# Altium integrated library Diodes - TVS.IntLib: 5379 symbols (part 12 of 122)
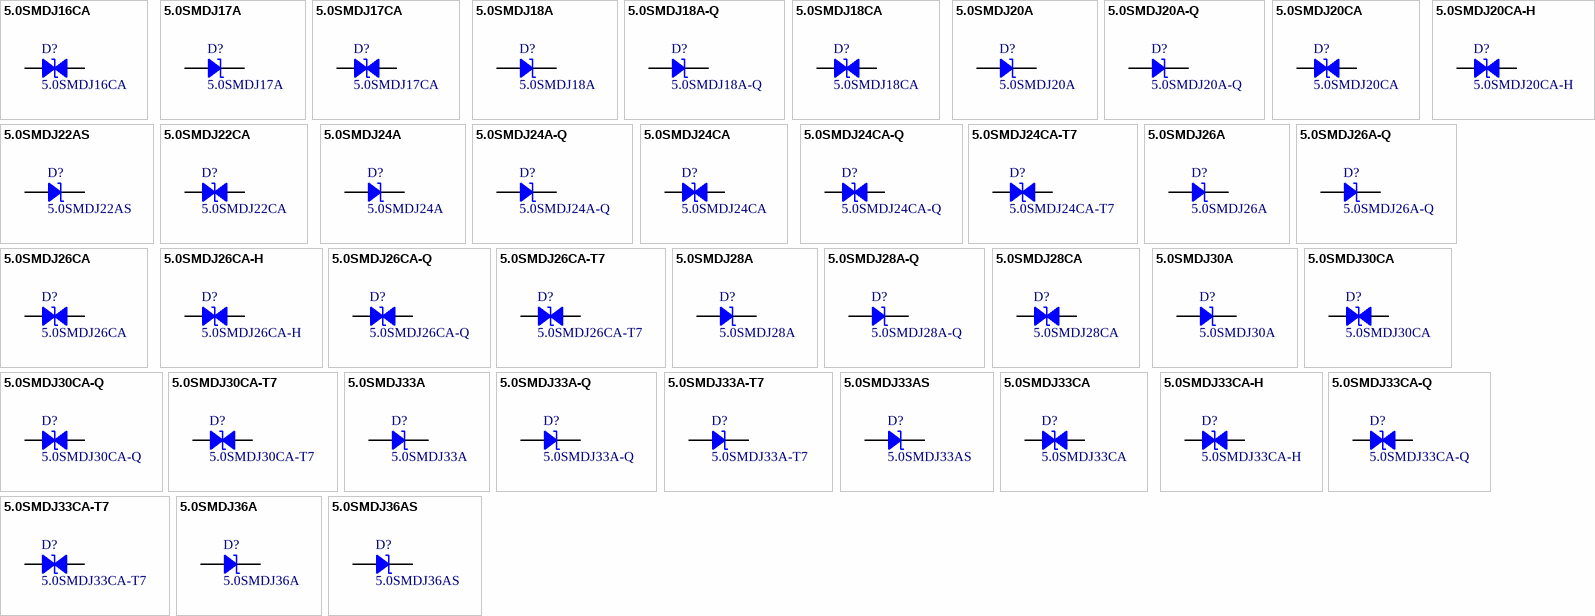
[diagram p145: symbols 5.0SMDJ16CA to 5.0SMDJ36AS]

## 5.0SMDJ36AS
designator D?
TVS DIODE 5KW 36V 5%UNI DO-214AB; Manufacturer: Littelfuse Inc.; Current - Peak Pulse (10/1000µs): 86.1A; Power Line Protection: No; Power - Peak Pulse: 5000W (5kW); Type: Zener; Unidirectional Channels: 1; Voltage - Breakdown (Min): 40V; Voltage - Clamping (Max) @ Ipp: 58.1V; Part Number: 5.0SMDJ36AS; Applications: Telecom; ComponentLink1Description: Datasheet; ComponentLink1URL: https://m.littelfuse.com/~/media/electronics/datasheets/tvs_diodes/littelfuse_tvs_diode_5_0smdjxxs_datasheet.pdf.pdf; ComponentLink2Description: DigiKey Link; ComponentLink2URL: http://digikey.com/product-detail/en/littelfuse-inc/5.0SMDJ36AS/5.0SMDJ36ASCT-ND/10264820; LastUpdated: 9/2/2020 1:20:06 AM; Lifecycle Status: Active; Minimum Order: 1; Mounting Type: Surface Mount; Operating Temperature: -65°C ~ 150°C (TJ); Package / Case: DO-214AB, SMC; Packaging: TapeAndReel; PartId: 7005; Part Status: Active; Price: 0.72; Series: 5.0SMDJ-S; Supplier 1: DigiKey; Supplier Part Number 1: 5.0SMDJ36ASCT-ND; Supplier Device Package: DO-214AB (SMCJ); Voltage - Reverse Standoff (Typ): 36V
footprint DO214AB SMC
pins: 1, 2

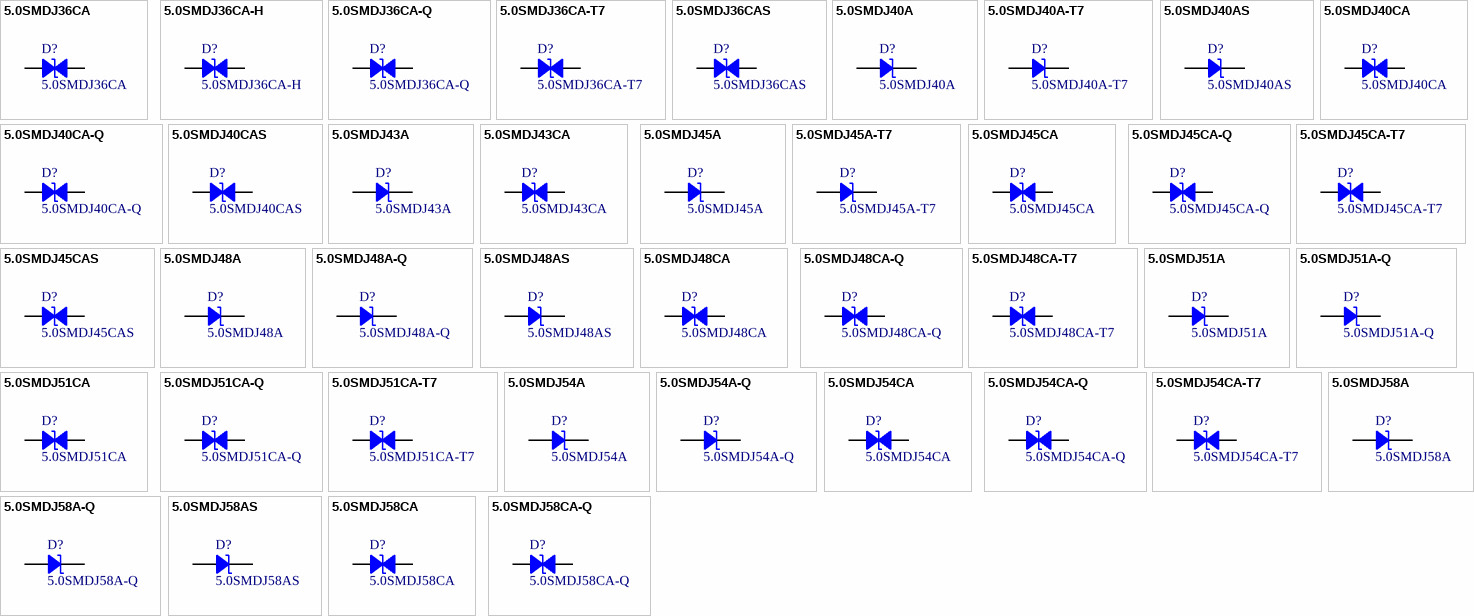
[diagram p12: symbols 5.0SMDJ36CA to 5.0SMDJ58CA-Q]

## 5.0SMDJ36CA
designator D?
TVS DIODE 36V 58.1V DO214AB; Manufacturer: Littelfuse Inc.; Bidirectional Channels: 1; Current - Peak Pulse (10/1000µs): 86.1A; Power Line Protection: No; Power - Peak Pulse: 5000W (5kW); Type: Zener; Voltage - Breakdown (Min): 40V; Part Number: 5.0SMDJ36CA; Applications: General Purpose; ComponentLink1Description: Datasheet; ComponentLink1URL: https://www.littelfuse.com/products/tvs-diodes/surface-mount/~/media/electronics/datasheets/tvs_diodes/littelfuse_tvs_diode_5_0smdj_datasheet.pdf.pdf; ComponentLink2Description: DigiKey Link; ComponentLink2URL: http://digikey.com/product-detail/en/littelfuse-inc/5.0SMDJ36CA/F4122CT-ND/2745260; LastUpdated: 9/2/2020 1:28:03 AM; Lifecycle Status: Active; Minimum Order: 1; Mounting Type: Surface Mount; Operating Temperature: -65°C ~ 150°C (TJ); Package / Case: DO-214AB, SMC; Packaging: TapeAndReel; PartId: 8143; Part Status: Active; Price: 1.02; Series: 5.0SMDJ; Supplier 1: DigiKey; Supplier Part Number 1: F4122CT-ND; Supplier Device Package: DO-214AB (SMCJ); Voltage - Clamping (Max) @ Ipp: 58.1V; Voltage - Reverse Standoff (Typ): 36V
footprint DO214AB SMC
pins: 1, 2

## 5.0SMDJ36CA-H
designator D?
TVS DIODE 36V 58.1V DO214AB; Manufacturer: Bourns Inc.; Bidirectional Channels: 1; Current - Peak Pulse (10/1000µs): 86.1A; Power Line Protection: No; Power - Peak Pulse: 5000W (5kW); Type: Zener; Voltage - Breakdown (Min): 40V; Part Number: 5.0SMDJ36CA-H; Applications: General Purpose; ComponentLink1Description: Datasheet; ComponentLink1URL: https://www.bourns.com/docs/product-datasheets/5-0smdj.pdf; ComponentLink2Description: DigiKey Link; ComponentLink2URL: http://digikey.com/product-detail/en/bourns-inc/5.0SMDJ36CA-H/5.0SMDJ36CA-HCT-ND/7670060; LastUpdated: 9/2/2020 1:28:07 AM; Lifecycle Status: Active; Minimum Order: 1; Mounting Type: Surface Mount; Operating Temperature: -55°C ~ 150°C (TJ); Package / Case: DO-214AB, SMC; Packaging: TapeAndReel; PartId: 8580; Part Status: Active; Price: 0.91; Series: 5.0SMDJ; Supplier 1: DigiKey; Supplier Part Number 1: 5.0SMDJ36CA-HCT-ND; Supplier Device Package: DO-214AB (SMC); Voltage - Clamping (Max) @ Ipp: 58.1V; Voltage - Reverse Standoff (Typ): 36V
footprint DO214AB SMC
pins: 1, 2

## 5.0SMDJ36CA-Q
designator D?
DIO TVS VWM 36V 5KW BIDIR SMC AE; Manufacturer: Bourns Inc.; Bidirectional Channels: 1; Current - Peak Pulse (10/1000µs): 86.1A; Power Line Protection: No; Power - Peak Pulse: 5000W (5kW); Type: Zener; Voltage - Breakdown (Min): 40V; Voltage - Clamping (Max) @ Ipp: 58.1V; Part Number: 5.0SMDJ36CA-Q; Applications: Automotive; ComponentLink1Description: Datasheet; ComponentLink1URL: https://www.bourns.com/docs/product-datasheets/5-0smdj-q.pdf?sfvrsn=a6c72f6_2; ComponentLink2Description: DigiKey Link; ComponentLink2URL: http://digikey.com/product-detail/en/bourns-inc/5.0SMDJ36CA-Q/5.0SMDJ36CA-QCT-ND/10222672; LastUpdated: 9/2/2020 1:28:06 AM; Lifecycle Status: Active; Minimum Order: 1; Mounting Type: Surface Mount; Operating Temperature: -55°C ~ 150°C (TJ); Package / Case: DO-214AB, SMC; Packaging: TapeAndReel; PartId: 8415; Part Status: Active; Price: 0.91; Series: Automotive, AEC-Q101, 5.0SMDJ; Supplier 1: DigiKey; Supplier Part Number 1: 5.0SMDJ36CA-QCT-ND; Supplier Device Package: SMC (DO-214AB); Voltage - Reverse Standoff (Typ): 36V
footprint DO214AB SMC
pins: 1, 2

## 5.0SMDJ36CA-T7
designator D?
TVS DIODE 36VWM 58.1VC SMD; Manufacturer: Littelfuse Inc.; Bidirectional Channels: 1; Current - Peak Pulse (10/1000µs): 86.1A; Power Line Protection: No; Power - Peak Pulse: 5000W (5kW); Type: Zener; Voltage - Breakdown (Min): 40V; Voltage - Clamping (Max) @ Ipp: 58.1V; Voltage - Reverse Standoff (Typ): 36V; Part Number: 5.0SMDJ36CA-T7; Applications: General Purpose; ComponentLink1Description: Datasheet; ComponentLink1URL: https://www.littelfuse.com/products/tvs-diodes/surface-mount/~/media/electronics/datasheets/tvs_diodes/littelfuse_tvs_diode_5_0smdj_datasheet.pdf.pdf; ComponentLink2Description: DigiKey Link; ComponentLink2URL: http://digikey.com/product-detail/en/littelfuse-inc/5.0SMDJ36CA-T7/5.0SMDJ36CA-T7CT-ND/8548364; LastUpdated: 9/2/2020 1:28:02 AM; Lifecycle Status: Active; Minimum Order: 1; Mounting Type: Surface Mount; Operating Temperature: -65°C ~ 150°C (TJ); Package / Case: DO-214AB, SMC; Packaging: TapeAndReel; PartId: 8018; Part Status: Active; Price: 1.22; Series: 5.0SMDJ; Supplier 1: DigiKey; Supplier Part Number 1: 5.0SMDJ36CA-T7CT-ND; Supplier Device Package: DO-214AB (SMCJ)
footprint DO214AB SMC
pins: 1, 2

## 5.0SMDJ36CAS
designator D?
TVS DIODE 4.5KW 36V 5%BI DO-214A; Manufacturer: Littelfuse Inc.; Bidirectional Channels: 1; Current - Peak Pulse (10/1000µs): 77.5A; Power Line Protection: No; Power - Peak Pulse: 5000W (5kW); Type: Zener; Voltage - Breakdown (Min): 40V; Voltage - Clamping (Max) @ Ipp: 58.1V; Part Number: 5.0SMDJ36CAS; Applications: Telecom; ComponentLink1Description: Datasheet; ComponentLink1URL: https://m.littelfuse.com/~/media/electronics/datasheets/tvs_diodes/littelfuse_tvs_diode_5_0smdjxxs_datasheet.pdf.pdf; ComponentLink2Description: DigiKey Link; ComponentLink2URL: http://digikey.com/product-detail/en/littelfuse-inc/5.0SMDJ36CAS/5.0SMDJ36CASCT-ND/10264821; LastUpdated: 9/2/2020 1:28:07 AM; Lifecycle Status: Active; Minimum Order: 1; Mounting Type: Surface Mount; Operating Temperature: -65°C ~ 150°C (TJ); Package / Case: DO-214AB, SMC; Packaging: TapeAndReel; PartId: 8584; Part Status: Active; Price: 0.92; Series: 5.0SMDJ-S; Supplier 1: DigiKey; Supplier Part Number 1: 5.0SMDJ36CASCT-ND; Supplier Device Package: DO-214AB (SMCJ); Voltage - Reverse Standoff (Typ): 36V
footprint DO214AB SMC
pins: 1, 2

## 5.0SMDJ40A
designator D?
TVS DIODE 40V 64.5V DO214AB; Manufacturer: Bourns Inc.; Current - Peak Pulse (10/1000µs): 77.6A; Power Line Protection: No; Power - Peak Pulse: 5000W (5kW); Type: Zener; Unidirectional Channels: 1; Voltage - Breakdown (Min): 44.4V; Part Number: 5.0SMDJ40A; Applications: General Purpose; ComponentLink1Description: Datasheet; ComponentLink1URL: https://www.bourns.com/docs/product-datasheets/5-0smdj.pdf; ComponentLink2Description: DigiKey Link; ComponentLink2URL: http://digikey.com/product-detail/en/bourns-inc/5.0SMDJ40A/5.0SMDJ40ABBCT-ND/7796658; LastUpdated: 9/2/2020 1:19:58 AM; Lifecycle Status: Active; Minimum Order: 1; Mounting Type: Surface Mount; Operating Temperature: -55°C ~ 150°C (TJ); Package / Case: DO-214AB, SMC; Packaging: TapeAndReel; PartId: 6239; Part Status: Active; Price: 0.72; Series: 5.0SMDJ; Supplier 1: DigiKey; Supplier Part Number 1: 5.0SMDJ40ABBCT-ND; Supplier Device Package: DO-214AB (SMC); Voltage - Clamping (Max) @ Ipp: 64.5V; Voltage - Reverse Standoff (Typ): 40V
footprint DO214AB SMC
pins: 1, 2

## 5.0SMDJ40A-T7
designator D?
TVS DIODE 40V 64.5V DO214AB; Manufacturer: Littelfuse Inc.; Current - Peak Pulse (10/1000µs): 77.6A; Power Line Protection: No; Power - Peak Pulse: 5000W (5kW); Type: Zener; Unidirectional Channels: 1; Voltage - Breakdown (Min): 44.4V; Part Number: 5.0SMDJ40A-T7; Applications: General Purpose; ComponentLink1Description: Datasheet; ComponentLink1URL: https://www.littelfuse.com/products/tvs-diodes/surface-mount/~/media/electronics/datasheets/tvs_diodes/littelfuse_tvs_diode_5_0smdj_datasheet.pdf.pdf; ComponentLink2Description: DigiKey Link; ComponentLink2URL: http://digikey.com/product-detail/en/littelfuse-inc/5.0SMDJ40A-T7/5.0SMDJ40A-T7CT-ND/9841917; LastUpdated: 9/2/2020 1:19:58 AM; Lifecycle Status: Active; Minimum Order: 1; Mounting Type: Surface Mount; Operating Temperature: -65°C ~ 150°C (TJ); Package / Case: DO-214AB, SMC; Packaging: TapeAndReel; PartId: 6230; Part Status: Active; Price: 0.96; Series: 5.0SMDJ; Supplier 1: DigiKey; Supplier Part Number 1: 5.0SMDJ40A-T7CT-ND; Supplier Device Package: DO-214AB (SMCJ); Voltage - Clamping (Max) @ Ipp: 64.5V; Voltage - Reverse Standoff (Typ): 40V
footprint DO214AB SMC
pins: 1, 2

## 5.0SMDJ40AS
designator D?
TVS DIODE 5KW 40V 5%UNI DO-214AB; Manufacturer: Littelfuse Inc.; Current - Peak Pulse (10/1000µs): 77.6A; Power Line Protection: No; Power - Peak Pulse: 5000W (5kW); Type: Zener; Unidirectional Channels: 1; Voltage - Breakdown (Min): 44.4V; Voltage - Clamping (Max) @ Ipp: 64.5V; Part Number: 5.0SMDJ40AS; Applications: Telecom; ComponentLink1Description: Datasheet; ComponentLink1URL: https://m.littelfuse.com/~/media/electronics/datasheets/tvs_diodes/littelfuse_tvs_diode_5_0smdjxxs_datasheet.pdf.pdf; ComponentLink2Description: DigiKey Link; ComponentLink2URL: http://digikey.com/product-detail/en/littelfuse-inc/5.0SMDJ40AS/5.0SMDJ40ASCT-ND/10264822; LastUpdated: 9/2/2020 1:20:05 AM; Lifecycle Status: Active; Minimum Order: 1; Mounting Type: Surface Mount; Operating Temperature: -65°C ~ 150°C (TJ); Package / Case: DO-214AB, SMC; Packaging: TapeAndReel; PartId: 6955; Part Status: Active; Price: 0.72; Series: 5.0SMDJ-S; Supplier 1: DigiKey; Supplier Part Number 1: 5.0SMDJ40ASCT-ND; Supplier Device Package: DO-214AB (SMCJ); Voltage - Reverse Standoff (Typ): 40V
footprint DO214AB SMC
pins: 1, 2

## 5.0SMDJ40CA
designator D?
TVS DIODE 40V 64.5V DO214AB; Manufacturer: Littelfuse Inc.; Bidirectional Channels: 1; Current - Peak Pulse (10/1000µs): 77.6A; Power Line Protection: No; Power - Peak Pulse: 5000W (5kW); Type: Zener; Voltage - Breakdown (Min): 44.4V; Part Number: 5.0SMDJ40CA; Applications: General Purpose; ComponentLink1Description: Datasheet; ComponentLink1URL: https://www.littelfuse.com/products/tvs-diodes/surface-mount/~/media/electronics/datasheets/tvs_diodes/littelfuse_tvs_diode_5_0smdj_datasheet.pdf.pdf; ComponentLink2Description: DigiKey Link; ComponentLink2URL: http://digikey.com/product-detail/en/littelfuse-inc/5.0SMDJ40CA/F6809CT-ND/5452969; LastUpdated: 9/2/2020 1:28:03 AM; Lifecycle Status: Active; Minimum Order: 1; Mounting Type: Surface Mount; Operating Temperature: -65°C ~ 150°C (TJ); Package / Case: DO-214AB, SMC; Packaging: TapeAndReel; PartId: 8141; Part Status: Active; Price: 1.02; Series: 5.0SMDJ; Supplier 1: DigiKey; Supplier Part Number 1: F6809CT-ND; Supplier Device Package: DO-214AB (SMCJ); Voltage - Clamping (Max) @ Ipp: 64.5V; Voltage - Reverse Standoff (Typ): 40V
footprint DO214AB SMC
pins: 1, 2

## 5.0SMDJ40CA-Q
designator D?
DIO TVS VWM 40V 5KW BIDIR SMC AE; Manufacturer: Bourns Inc.; Bidirectional Channels: 1; Current - Peak Pulse (10/1000µs): 77.6A; Power Line Protection: No; Power - Peak Pulse: 5000W (5kW); Type: Zener; Voltage - Breakdown (Min): 44.4V; Voltage - Clamping (Max) @ Ipp: 64.5V; Part Number: 5.0SMDJ40CA-Q; Applications: Automotive; ComponentLink1Description: Datasheet; ComponentLink1URL: https://www.bourns.com/docs/product-datasheets/5-0smdj-q.pdf?sfvrsn=a6c72f6_2; ComponentLink2Description: DigiKey Link; ComponentLink2URL: http://digikey.com/product-detail/en/bourns-inc/5.0SMDJ40CA-Q/5.0SMDJ40CA-QCT-ND/10222673; LastUpdated: 9/2/2020 1:28:06 AM; Lifecycle Status: Active; Minimum Order: 1; Mounting Type: Surface Mount; Operating Temperature: -55°C ~ 150°C (TJ); Package / Case: DO-214AB, SMC; Packaging: TapeAndReel; PartId: 8417; Part Status: Active; Price: 0.91; Series: Automotive, AEC-Q101, 5.0SMDJ; Supplier 1: DigiKey; Supplier Part Number 1: 5.0SMDJ40CA-QCT-ND; Supplier Device Package: SMC (DO-214AB); Voltage - Reverse Standoff (Typ): 40V
footprint DO214AB SMC
pins: 1, 2

## 5.0SMDJ40CAS
designator D?
TVS DIODE 4.5KW 40V 5%BI DO-214A; Manufacturer: Littelfuse Inc.; Bidirectional Channels: 1; Current - Peak Pulse (10/1000µs): 69.8A; Power Line Protection: No; Power - Peak Pulse: 5000W (5kW); Type: Zener; Voltage - Breakdown (Min): 44.4V; Voltage - Clamping (Max) @ Ipp: 64.5V; Part Number: 5.0SMDJ40CAS; Applications: Telecom; ComponentLink1Description: Datasheet; ComponentLink1URL: https://m.littelfuse.com/~/media/electronics/datasheets/tvs_diodes/littelfuse_tvs_diode_5_0smdjxxs_datasheet.pdf.pdf; ComponentLink2Description: DigiKey Link; ComponentLink2URL: http://digikey.com/product-detail/en/littelfuse-inc/5.0SMDJ40CAS/5.0SMDJ40CASCT-ND/10264823; LastUpdated: 9/2/2020 1:28:07 AM; Lifecycle Status: Active; Minimum Order: 1; Mounting Type: Surface Mount; Operating Temperature: -65°C ~ 150°C (TJ); Package / Case: DO-214AB, SMC; Packaging: TapeAndReel; PartId: 8583; Part Status: Active; Price: 0.92; Series: 5.0SMDJ-S; Supplier 1: DigiKey; Supplier Part Number 1: 5.0SMDJ40CASCT-ND; Supplier Device Package: DO-214AB (SMCJ); Voltage - Reverse Standoff (Typ): 40V
footprint DO214AB SMC
pins: 1, 2

## 5.0SMDJ43A
designator D?
TVS DIODE 43V 69.4V DO214AB; Manufacturer: Littelfuse Inc.; Current - Peak Pulse (10/1000µs): 72.1A; Power Line Protection: No; Power - Peak Pulse: 5000W (5kW); Type: Zener; Unidirectional Channels: 1; Voltage - Breakdown (Min): 47.8V; Part Number: 5.0SMDJ43A; Applications: General Purpose; ComponentLink1Description: Datasheet; ComponentLink1URL: https://www.littelfuse.com/products/tvs-diodes/surface-mount/~/media/electronics/datasheets/tvs_diodes/littelfuse_tvs_diode_5_0smdj_datasheet.pdf.pdf; ComponentLink2Description: DigiKey Link; ComponentLink2URL: http://digikey.com/product-detail/en/littelfuse-inc/5.0SMDJ43A/F10853CT-ND/8109589; LastUpdated: 9/2/2020 1:20:04 AM; Lifecycle Status: Active; Minimum Order: 1; Mounting Type: Surface Mount; Operating Temperature: -65°C ~ 150°C (TJ); Package / Case: DO-214AB, SMC; Packaging: TapeAndReel; PartId: 6805; Part Status: Active; Price: 0.94; Series: 5.0SMDJ; Supplier 1: DigiKey; Supplier Part Number 1: F10853CT-ND; Supplier Device Package: DO-214AB (SMCJ); Voltage - Clamping (Max) @ Ipp: 69.4V; Voltage - Reverse Standoff (Typ): 43V
footprint DO214AB SMC
pins: 1, 2

## 5.0SMDJ43CA
designator D?
TVS DIODE 43V 69.4V DO214AB; Manufacturer: Littelfuse Inc.; Bidirectional Channels: 1; Current - Peak Pulse (10/1000µs): 72.1A; Power Line Protection: No; Power - Peak Pulse: 5000W (5kW); Type: Zener; Voltage - Breakdown (Min): 47.8V; Part Number: 5.0SMDJ43CA; Applications: General Purpose; ComponentLink1Description: Datasheet; ComponentLink1URL: https://www.littelfuse.com/products/tvs-diodes/surface-mount/~/media/electronics/datasheets/tvs_diodes/littelfuse_tvs_diode_5_0smdj_datasheet.pdf.pdf; ComponentLink2Description: DigiKey Link; ComponentLink2URL: http://digikey.com/product-detail/en/littelfuse-inc/5.0SMDJ43CA/F10854CT-ND/8109590; LastUpdated: 9/2/2020 1:28:07 AM; Lifecycle Status: Active; Minimum Order: 1; Mounting Type: Surface Mount; Operating Temperature: -65°C ~ 150°C (TJ); Package / Case: DO-214AB, SMC; Packaging: TapeAndReel; PartId: 8578; Part Status: Active; Price: 1.02; Series: 5.0SMDJ; Supplier 1: DigiKey; Supplier Part Number 1: F10854CT-ND; Supplier Device Package: DO-214AB (SMCJ); Voltage - Clamping (Max) @ Ipp: 69.4V; Voltage - Reverse Standoff (Typ): 43V
footprint DO214AB SMC
pins: 1, 2

## 5.0SMDJ45A
designator D?
TVS DIODE 45V 72.7V DO214AB; Manufacturer: Bourns Inc.; Current - Peak Pulse (10/1000µs): 68.8A; Power Line Protection: No; Power - Peak Pulse: 5000W (5kW); Type: Zener; Unidirectional Channels: 1; Voltage - Breakdown (Min): 50V; Part Number: 5.0SMDJ45A; Applications: General Purpose; ComponentLink1Description: Datasheet; ComponentLink1URL: https://www.bourns.com/docs/product-datasheets/5-0smdj.pdf; ComponentLink2Description: DigiKey Link; ComponentLink2URL: http://digikey.com/product-detail/en/bourns-inc/5.0SMDJ45A/5.0SMDJ45ABBCT-ND/7796660; LastUpdated: 9/2/2020 1:20:00 AM; Lifecycle Status: Active; Minimum Order: 1; Mounting Type: Surface Mount; Operating Temperature: -55°C ~ 150°C (TJ); Package / Case: DO-214AB, SMC; Packaging: TapeAndReel; PartId: 6449; Part Status: Active; Price: 0.72; Series: 5.0SMDJ; Supplier 1: DigiKey; Supplier Part Number 1: 5.0SMDJ45ABBCT-ND; Supplier Device Package: DO-214AB (SMC); Voltage - Clamping (Max) @ Ipp: 72.7V; Voltage - Reverse Standoff (Typ): 45V
footprint DO214AB SMC
pins: 1, 2

## 5.0SMDJ45A-T7
designator D?
TVS DIODE 45V 72.7V DO214AB; Manufacturer: Littelfuse Inc.; Current - Peak Pulse (10/1000µs): 68.8A; Power Line Protection: No; Power - Peak Pulse: 5000W (5kW); Type: Zener; Unidirectional Channels: 1; Voltage - Breakdown (Min): 50V; Part Number: 5.0SMDJ45A-T7; Applications: Telecom; ComponentLink1Description: Datasheet; ComponentLink1URL: https://www.littelfuse.com/products/tvs-diodes/surface-mount/~/media/electronics/datasheets/tvs_diodes/littelfuse_tvs_diode_5_0smdj_datasheet.pdf.pdf; ComponentLink2Description: DigiKey Link; ComponentLink2URL: http://digikey.com/product-detail/en/littelfuse-inc/5-0SMDJ45A-T7/18-5-0SMDJ45A-T7CT-ND/12756500; LastUpdated: 8/30/2020 9:01:03 PM; Lifecycle Status: Active; Minimum Order: 1; Mounting Type: Surface Mount; Package / Case: DO-214AB, SMC; Packaging: TapeAndReel; PartId: 11473; Price: 1.12; Series: 5.0SMDJ; Supplier 1: DigiKey; Supplier Part Number 1: 18-5.0SMDJ45A-T7CT-ND; Supplier Device Package: DO-214AB (SMCJ); Voltage - Clamping (Max) @ Ipp: 72.7V; Voltage - Reverse Standoff (Typ): 45V
footprint DO214AB SMC
pins: 1, 2

## 5.0SMDJ45CA
designator D?
TVS DIODE 45V 72.7V DO214AB; Manufacturer: Littelfuse Inc.; Bidirectional Channels: 1; Current - Peak Pulse (10/1000µs): 68.8A; Power Line Protection: No; Power - Peak Pulse: 5000W (5kW); Type: Zener; Voltage - Breakdown (Min): 50V; Part Number: 5.0SMDJ45CA; Applications: General Purpose; ComponentLink1Description: Datasheet; ComponentLink1URL: https://www.littelfuse.com/products/tvs-diodes/surface-mount/~/media/electronics/datasheets/tvs_diodes/littelfuse_tvs_diode_5_0smdj_datasheet.pdf.pdf; ComponentLink2Description: DigiKey Link; ComponentLink2URL: http://digikey.com/product-detail/en/littelfuse-inc/5.0SMDJ45CA/F4124CT-ND/2745262; LastUpdated: 9/2/2020 1:28:03 AM; Lifecycle Status: Active; Minimum Order: 1; Mounting Type: Surface Mount; Operating Temperature: -65°C ~ 150°C (TJ); Package / Case: DO-214AB, SMC; Packaging: TapeAndReel; PartId: 8139; Part Status: Active; Price: 1.25; Series: 5.0SMDJ; Supplier 1: DigiKey; Supplier Part Number 1: F4124CT-ND; Supplier Device Package: DO-214AB (SMCJ); Voltage - Clamping (Max) @ Ipp: 72.7V; Voltage - Reverse Standoff (Typ): 45V
footprint DO214AB SMC
pins: 1, 2

## 5.0SMDJ45CA-Q
designator D?
TVS DIODE; Manufacturer: Bourns Inc.; Bidirectional Channels: 1; Current - Peak Pulse (10/1000µs): 68.8A; Power Line Protection: No; Power - Peak Pulse: 5000W (5kW); Type: Zener; Voltage - Breakdown (Min): 50V; Voltage - Clamping (Max) @ Ipp: 72.7V; Voltage - Reverse Standoff (Typ): 45V; Part Number: 5.0SMDJ45CA-Q; Applications: Automotive, Telecom; ComponentLink1Description: Datasheet; ComponentLink1URL: https://www.bourns.com/docs/product-datasheets/5-0smdj-q.pdf; ComponentLink2Description: DigiKey Link; ComponentLink2URL: http://digikey.com/product-detail/en/bourns-inc/5.0SMDJ45CA-Q/118-5.0SMDJ45CA-QCT-ND/10447733; LastUpdated: 9/2/2020 1:28:08 AM; Lifecycle Status: Active; Minimum Order: 1; Mounting Type: Surface Mount; Operating Temperature: -55°C ~ 150°C (TJ); Package / Case: DO-214AB, SMC; Packaging: TapeAndReel; PartId: 8607; Part Status: Active; Price: 0.91; Series: Automotive, AEC-Q101, 5.0SMDJ; Supplier 1: DigiKey; Supplier Part Number 1: 118-5.0SMDJ45CA-QCT-ND; Supplier Device Package: SMC (DO-214AB)
footprint DO214AB SMC
pins: 1, 2

## 5.0SMDJ45CA-T7
designator D?
TVS DIODE 45V 72.7V DO214AB; Manufacturer: Littelfuse Inc.; Bidirectional Channels: 1; Current - Peak Pulse (10/1000µs): 68.8A; Power Line Protection: No; Power - Peak Pulse: 5000W (5kW); Type: Zener; Voltage - Breakdown (Min): 50V; Part Number: 5.0SMDJ45CA-T7; Applications: General Purpose; ComponentLink1Description: Datasheet; ComponentLink1URL: https://www.littelfuse.com/products/tvs-diodes/surface-mount/~/media/electronics/datasheets/tvs_diodes/littelfuse_tvs_diode_5_0smdj_datasheet.pdf.pdf; ComponentLink2Description: DigiKey Link; ComponentLink2URL: http://digikey.com/product-detail/en/littelfuse-inc/5.0SMDJ45CA-T7/F11457CT-ND/9326986; LastUpdated: 9/2/2020 1:28:06 AM; Lifecycle Status: Active; Minimum Order: 1; Mounting Type: Surface Mount; Operating Temperature: -65°C ~ 150°C (TJ); Package / Case: DO-214AB, SMC; Packaging: TapeAndReel; PartId: 8396; Part Status: Active; Price: 1.49; Series: 5.0SMDJ; Supplier 1: DigiKey; Supplier Part Number 1: F11457CT-ND; Supplier Device Package: DO-214AB (SMCJ); Voltage - Clamping (Max) @ Ipp: 72.7V; Voltage - Reverse Standoff (Typ): 45V
footprint DO214AB SMC
pins: 1, 2

## 5.0SMDJ45CAS
designator D?
TVS DIODE 4.5KW 45V 5%BI DO-214A; Manufacturer: Littelfuse Inc.; Bidirectional Channels: 1; Current - Peak Pulse (10/1000µs): 61.9A; Power Line Protection: No; Power - Peak Pulse: 5000W (5kW); Type: Zener; Voltage - Breakdown (Min): 50V; Voltage - Clamping (Max) @ Ipp: 72.7V; Part Number: 5.0SMDJ45CAS; Applications: Telecom; ComponentLink1Description: Datasheet; ComponentLink1URL: https://m.littelfuse.com/~/media/electronics/datasheets/tvs_diodes/littelfuse_tvs_diode_5_0smdjxxs_datasheet.pdf.pdf; ComponentLink2Description: DigiKey Link; ComponentLink2URL: http://digikey.com/product-detail/en/littelfuse-inc/5.0SMDJ45CAS/5.0SMDJ45CASCT-ND/10264824; LastUpdated: 9/2/2020 1:28:07 AM; Lifecycle Status: Active; Minimum Order: 1; Mounting Type: Surface Mount; Operating Temperature: -65°C ~ 150°C (TJ); Package / Case: DO-214AB, SMC; Packaging: TapeAndReel; PartId: 8576; Part Status: Active; Price: 1.06; Series: 5.0SMDJ-S; Supplier 1: DigiKey; Supplier Part Number 1: 5.0SMDJ45CASCT-ND; Supplier Device Package: DO-214AB (SMCJ); Voltage - Reverse Standoff (Typ): 45V
footprint DO214AB SMC
pins: 1, 2

## 5.0SMDJ48A
designator D?
TVS DIODE 48V 77.4V DO214AB; Manufacturer: Bourns Inc.; Current - Peak Pulse (10/1000µs): 64.7A; Power Line Protection: No; Power - Peak Pulse: 5000W (5kW); Type: Zener; Unidirectional Channels: 1; Voltage - Breakdown (Min): 53.3V; Part Number: 5.0SMDJ48A; Applications: General Purpose; ComponentLink1Description: Datasheet; ComponentLink1URL: https://www.bourns.com/docs/product-datasheets/5-0smdj.pdf; ComponentLink2Description: DigiKey Link; ComponentLink2URL: http://digikey.com/product-detail/en/bourns-inc/5.0SMDJ48A/5.0SMDJ48ABBCT-ND/7796662; LastUpdated: 9/2/2020 1:20:00 AM; Lifecycle Status: Active; Minimum Order: 1; Mounting Type: Surface Mount; Operating Temperature: -55°C ~ 150°C (TJ); Package / Case: DO-214AB, SMC; Packaging: TapeAndReel; PartId: 6448; Part Status: Active; Price: 0.72; Series: 5.0SMDJ; Supplier 1: DigiKey; Supplier Part Number 1: 5.0SMDJ48ABBCT-ND; Supplier Device Package: DO-214AB (SMC); Voltage - Clamping (Max) @ Ipp: 77.4V; Voltage - Reverse Standoff (Typ): 48V
footprint DO214AB SMC
pins: 1, 2

## 5.0SMDJ48A-Q
designator D?
TVS DIODE; Manufacturer: Bourns Inc.; Current - Peak Pulse (10/1000µs): 64.7A; Power Line Protection: No; Power - Peak Pulse: 5000W (5kW); Type: Zener; Unidirectional Channels: 1; Voltage - Breakdown (Min): 53.3V; Voltage - Clamping (Max) @ Ipp: 77.4V; Voltage - Reverse Standoff (Typ): 48V; Part Number: 5.0SMDJ48A-Q; Applications: Automotive, Telecom; ComponentLink1Description: Datasheet; ComponentLink1URL: https://www.bourns.com/docs/product-datasheets/5-0smdj-q.pdf; ComponentLink2Description: DigiKey Link; ComponentLink2URL: http://digikey.com/product-detail/en/bourns-inc/5.0SMDJ48A-Q/118-5.0SMDJ48A-QCT-ND/10447744; LastUpdated: 9/2/2020 1:20:06 AM; Lifecycle Status: Active; Minimum Order: 1; Mounting Type: Surface Mount; Operating Temperature: -55°C ~ 150°C (TJ); Package / Case: DO-214AB, SMC; Packaging: TapeAndReel; PartId: 7021; Part Status: Active; Price: 0.86; Series: Automotive, AEC-Q101, 5.0SMDJ; Supplier 1: DigiKey; Supplier Part Number 1: 118-5.0SMDJ48A-QCT-ND; Supplier Device Package: SMC (DO-214AB)
footprint DO214AB SMC
pins: 1, 2

## 5.0SMDJ48AS
designator D?
TVS DIODE 5KW 48V 5%UNI DO-214AB; Manufacturer: Littelfuse Inc.; Current - Peak Pulse (10/1000µs): 64.7A; Power Line Protection: No; Power - Peak Pulse: 5000W (5kW); Type: Zener; Unidirectional Channels: 1; Voltage - Breakdown (Min): 53.3V; Voltage - Clamping (Max) @ Ipp: 77.4V; Part Number: 5.0SMDJ48AS; Applications: Telecom; ComponentLink1Description: Datasheet; ComponentLink1URL: https://m.littelfuse.com/~/media/electronics/datasheets/tvs_diodes/littelfuse_tvs_diode_5_0smdjxxs_datasheet.pdf.pdf; ComponentLink2Description: DigiKey Link; ComponentLink2URL: http://digikey.com/product-detail/en/littelfuse-inc/5.0SMDJ48AS/5.0SMDJ48ASCT-ND/10264825; LastUpdated: 9/2/2020 1:20:06 AM; Lifecycle Status: Active; Minimum Order: 1; Mounting Type: Surface Mount; Operating Temperature: -65°C ~ 150°C (TJ); Package / Case: DO-214AB, SMC; Packaging: TapeAndReel; PartId: 7003; Part Status: Active; Price: 0.84; Series: 5.0SMDJ-S; Supplier 1: DigiKey; Supplier Part Number 1: 5.0SMDJ48ASCT-ND; Supplier Device Package: DO-214AB (SMCJ); Voltage - Reverse Standoff (Typ): 48V
footprint DO214AB SMC
pins: 1, 2

## 5.0SMDJ48CA
designator D?
TVS DIODE 48V 77.4V DO214AB; Manufacturer: Littelfuse Inc.; Bidirectional Channels: 1; Current - Peak Pulse (10/1000µs): 64.7A; Power Line Protection: No; Power - Peak Pulse: 5000W (5kW); Type: Zener; Voltage - Breakdown (Min): 53.3V; Part Number: 5.0SMDJ48CA; Applications: General Purpose; ComponentLink1Description: Datasheet; ComponentLink1URL: https://www.littelfuse.com/products/tvs-diodes/surface-mount/~/media/electronics/datasheets/tvs_diodes/littelfuse_tvs_diode_5_0smdj_datasheet.pdf.pdf; ComponentLink2Description: DigiKey Link; ComponentLink2URL: http://digikey.com/product-detail/en/littelfuse-inc/5.0SMDJ48CA/F6810CT-ND/5452968; LastUpdated: 9/2/2020 1:28:03 AM; Lifecycle Status: Active; Minimum Order: 1; Mounting Type: Surface Mount; Operating Temperature: -65°C ~ 150°C (TJ); Package / Case: DO-214AB, SMC; Packaging: TapeAndReel; PartId: 8138; Part Status: Active; Price: 1.25; Series: 5.0SMDJ; Supplier 1: DigiKey; Supplier Part Number 1: F6810CT-ND; Supplier Device Package: DO-214AB (SMCJ); Voltage - Clamping (Max) @ Ipp: 77.4V; Voltage - Reverse Standoff (Typ): 48V
footprint DO214AB SMC
pins: 1, 2

## 5.0SMDJ48CA-Q
designator D?
TVS DIODE; Manufacturer: Bourns Inc.; Bidirectional Channels: 1; Current - Peak Pulse (10/1000µs): 64.7A; Power Line Protection: No; Power - Peak Pulse: 5000W (5kW); Type: Zener; Voltage - Breakdown (Min): 53.3V; Voltage - Clamping (Max) @ Ipp: 77.4V; Voltage - Reverse Standoff (Typ): 48V; Part Number: 5.0SMDJ48CA-Q; Applications: Automotive, Telecom; ComponentLink1Description: Datasheet; ComponentLink1URL: https://www.bourns.com/docs/product-datasheets/5-0smdj-q.pdf; ComponentLink2Description: DigiKey Link; ComponentLink2URL: http://digikey.com/product-detail/en/bourns-inc/5.0SMDJ48CA-Q/118-5.0SMDJ48CA-QCT-ND/10447723; LastUpdated: 9/2/2020 1:28:08 AM; Lifecycle Status: Active; Minimum Order: 1; Mounting Type: Surface Mount; Operating Temperature: -55°C ~ 150°C (TJ); Package / Case: DO-214AB, SMC; Packaging: TapeAndReel; PartId: 8611; Part Status: Active; Price: 0.91; Series: Automotive, AEC-Q101, 5.0SMDJ; Supplier 1: DigiKey; Supplier Part Number 1: 118-5.0SMDJ48CA-QCT-ND; Supplier Device Package: SMC (DO-214AB)
footprint DO214AB SMC
pins: 1, 2

## 5.0SMDJ48CA-T7
designator D?
TVS DIODE 48VWM 77.4VC SMD; Manufacturer: Littelfuse Inc.; Bidirectional Channels: 1; Current - Peak Pulse (10/1000µs): 64.7A; Power Line Protection: No; Power - Peak Pulse: 5000W (5kW); Type: Zener; Voltage - Breakdown (Min): 53.3V; Voltage - Clamping (Max) @ Ipp: 77.4V; Voltage - Reverse Standoff (Typ): 48V; Part Number: 5.0SMDJ48CA-T7; Applications: General Purpose; ComponentLink1Description: Datasheet; ComponentLink1URL: https://www.littelfuse.com/products/tvs-diodes/surface-mount/~/media/electronics/datasheets/tvs_diodes/littelfuse_tvs_diode_5_0smdj_datasheet.pdf.pdf; ComponentLink2Description: DigiKey Link; ComponentLink2URL: http://digikey.com/product-detail/en/littelfuse-inc/5.0SMDJ48CA-T7/5.0SMDJ48CA-T7CT-ND/8548365; LastUpdated: 9/2/2020 1:28:07 AM; Lifecycle Status: Active; Minimum Order: 1; Mounting Type: Surface Mount; Operating Temperature: -65°C ~ 150°C (TJ); Package / Case: DO-214AB, SMC; Packaging: TapeAndReel; PartId: 8572; Part Status: Active; Price: 1.49; Series: 5.0SMDJ; Supplier 1: DigiKey; Supplier Part Number 1: 5.0SMDJ48CA-T7CT-ND; Supplier Device Package: DO-214AB (SMCJ)
footprint DO214AB SMC
pins: 1, 2

## 5.0SMDJ51A
designator D?
TVS DIODE 51V 82.4V DO214AB; Manufacturer: Littelfuse Inc.; Current - Peak Pulse (10/1000µs): 60.7A; Power Line Protection: No; Power - Peak Pulse: 5000W (5kW); Type: Zener; Unidirectional Channels: 1; Voltage - Breakdown (Min): 56.7V; Part Number: 5.0SMDJ51A; Applications: General Purpose; ComponentLink1Description: Datasheet; ComponentLink1URL: https://www.littelfuse.com/products/tvs-diodes/surface-mount/~/media/electronics/datasheets/tvs_diodes/littelfuse_tvs_diode_5_0smdj_datasheet.pdf.pdf; ComponentLink2Description: DigiKey Link; ComponentLink2URL: http://digikey.com/product-detail/en/littelfuse-inc/5.0SMDJ51A/5.0SMDJ51ACT-ND/2699848; LastUpdated: 9/2/2020 1:20:01 AM; Lifecycle Status: Active; Minimum Order: 1; Mounting Type: Surface Mount; Operating Temperature: -65°C ~ 150°C (TJ); Package / Case: DO-214AB, SMC; Packaging: TapeAndReel; PartId: 6514; Part Status: Active; Price: 0.94; Series: 5.0SMDJ; Supplier 1: DigiKey; Supplier Part Number 1: 5.0SMDJ51ACT-ND; Supplier Device Package: DO-214AB (SMCJ); Voltage - Clamping (Max) @ Ipp: 82.4V; Voltage - Reverse Standoff (Typ): 51V
footprint DO214AB SMC
pins: 1, 2

## 5.0SMDJ51A-Q
designator D?
TVS DIODE; Manufacturer: Bourns Inc.; Current - Peak Pulse (10/1000µs): 60.7A; Power Line Protection: No; Power - Peak Pulse: 5000W (5kW); Type: Zener; Unidirectional Channels: 1; Voltage - Breakdown (Min): 56.7V; Voltage - Clamping (Max) @ Ipp: 82.4V; Voltage - Reverse Standoff (Typ): 51V; Part Number: 5.0SMDJ51A-Q; Applications: Automotive, Telecom; ComponentLink1Description: Datasheet; ComponentLink1URL: https://www.bourns.com/docs/product-datasheets/5-0smdj-q.pdf; ComponentLink2Description: DigiKey Link; ComponentLink2URL: http://digikey.com/product-detail/en/bourns-inc/5.0SMDJ51A-Q/118-5.0SMDJ51A-QCT-ND/10447751; LastUpdated: 9/2/2020 1:20:06 AM; Lifecycle Status: Active; Minimum Order: 1; Mounting Type: Surface Mount; Operating Temperature: -55°C ~ 150°C (TJ); Package / Case: DO-214AB, SMC; Packaging: TapeAndReel; PartId: 7019; Part Status: Active; Price: 0.86; Series: Automotive, AEC-Q101, 5.0SMDJ; Supplier 1: DigiKey; Supplier Part Number 1: 118-5.0SMDJ51A-QCT-ND; Supplier Device Package: SMC (DO-214AB)
footprint DO214AB SMC
pins: 1, 2

## 5.0SMDJ51CA
designator D?
DIO TVS VWM 51V 5KW BIDIR SMC; Manufacturer: Bourns Inc.; Bidirectional Channels: 1; Current - Peak Pulse (10/1000µs): 60.7A; Power Line Protection: No; Power - Peak Pulse: 5000W (5kW); Type: Zener; Voltage - Breakdown (Min): 56.7V; Voltage - Clamping (Max) @ Ipp: 82.4V; Part Number: 5.0SMDJ51CA; Applications: General Purpose; ComponentLink1Description: Datasheet; ComponentLink1URL: https://www.bourns.com/docs/product-datasheets/5-0smdj.pdf; ComponentLink2Description: DigiKey Link; ComponentLink2URL: http://digikey.com/product-detail/en/bourns-inc/5.0SMDJ51CA/5.0SMDJ51CACT-ND/9341776; LastUpdated: 9/2/2020 1:28:04 AM; Lifecycle Status: Active; Minimum Order: 1; Mounting Type: Surface Mount; Operating Temperature: -55°C ~ 150°C (TJ); Package / Case: DO-214AB, SMC; Packaging: TapeAndReel; PartId: 8191; Part Status: Active; Price: 0.76; Series: 5.0SMDJ; Supplier 1: DigiKey; Supplier Part Number 1: 5.0SMDJ51CACT-ND; Supplier Device Package: DO-214AB (SMC); Voltage - Reverse Standoff (Typ): 51V
footprint DO214AB SMC
pins: 1, 2

## 5.0SMDJ51CA-Q
designator D?
TVS DIODE; Manufacturer: Bourns Inc.; Bidirectional Channels: 1; Current - Peak Pulse (10/1000µs): 60.7A; Power Line Protection: No; Power - Peak Pulse: 5000W (5kW); Type: Zener; Voltage - Breakdown (Min): 56.7V; Voltage - Clamping (Max) @ Ipp: 82.4V; Voltage - Reverse Standoff (Typ): 51V; Part Number: 5.0SMDJ51CA-Q; Applications: Automotive, Telecom; ComponentLink1Description: Datasheet; ComponentLink1URL: https://www.bourns.com/docs/product-datasheets/5-0smdj-q.pdf; ComponentLink2Description: DigiKey Link; ComponentLink2URL: http://digikey.com/product-detail/en/bourns-inc/5.0SMDJ51CA-Q/118-5.0SMDJ51CA-QCT-ND/10447761; LastUpdated: 9/2/2020 1:28:08 AM; Lifecycle Status: Active; Minimum Order: 1; Mounting Type: Surface Mount; Operating Temperature: -55°C ~ 150°C (TJ); Package / Case: DO-214AB, SMC; Packaging: TapeAndReel; PartId: 8603; Part Status: Active; Price: 0.91; Series: Automotive, AEC-Q101, 5.0SMDJ; Supplier 1: DigiKey; Supplier Part Number 1: 118-5.0SMDJ51CA-QCT-ND; Supplier Device Package: SMC (DO-214AB)
footprint DO214AB SMC
pins: 1, 2

## 5.0SMDJ51CA-T7
designator D?
TVS DIODE 51VWM 82.4VC SMD; Manufacturer: Littelfuse Inc.; Bidirectional Channels: 1; Current - Peak Pulse (10/1000µs): 60.7A; Power Line Protection: No; Power - Peak Pulse: 5000W (5kW); Type: Zener; Voltage - Breakdown (Min): 56.7V; Voltage - Clamping (Max) @ Ipp: 82.4V; Voltage - Reverse Standoff (Typ): 51V; Part Number: 5.0SMDJ51CA-T7; Applications: General Purpose; ComponentLink1Description: Datasheet; ComponentLink1URL: https://www.littelfuse.com/products/tvs-diodes/surface-mount/~/media/electronics/datasheets/tvs_diodes/littelfuse_tvs_diode_5_0smdj_datasheet.pdf.pdf; ComponentLink2Description: DigiKey Link; ComponentLink2URL: http://digikey.com/product-detail/en/littelfuse-inc/5.0SMDJ51CA-T7/5.0SMDJ51CA-T7CT-ND/8548366; LastUpdated: 9/2/2020 1:28:06 AM; Lifecycle Status: Active; Minimum Order: 1; Mounting Type: Surface Mount; Operating Temperature: -65°C ~ 150°C (TJ); Package / Case: DO-214AB, SMC; Packaging: TapeAndReel; PartId: 8484; Part Status: Active; Price: 1.49; Series: 5.0SMDJ; Supplier 1: DigiKey; Supplier Part Number 1: 5.0SMDJ51CA-T7CT-ND; Supplier Device Package: DO-214AB (SMCJ)
footprint DO214AB SMC
pins: 1, 2

## 5.0SMDJ54A
designator D?
TVS DIODE 54V 87.1V DO214AB; Manufacturer: Bourns Inc.; Current - Peak Pulse (10/1000µs): 57.5A; Power Line Protection: No; Power - Peak Pulse: 5000W (5kW); Type: Zener; Unidirectional Channels: 1; Voltage - Breakdown (Min): 60V; Part Number: 5.0SMDJ54A; Applications: General Purpose; ComponentLink1Description: Datasheet; ComponentLink1URL: https://www.bourns.com/docs/product-datasheets/5-0smdj.pdf; ComponentLink2Description: DigiKey Link; ComponentLink2URL: http://digikey.com/product-detail/en/bourns-inc/5.0SMDJ54A/5.0SMDJ54ABBCT-ND/7796665; LastUpdated: 9/2/2020 1:20:02 AM; Lifecycle Status: Active; Minimum Order: 1; Mounting Type: Surface Mount; Operating Temperature: -55°C ~ 150°C (TJ); Package / Case: DO-214AB, SMC; Packaging: TapeAndReel; PartId: 6637; Part Status: Active; Price: 0.76; Series: 5.0SMDJ; Supplier 1: DigiKey; Supplier Part Number 1: 5.0SMDJ54ABBCT-ND; Supplier Device Package: DO-214AB (SMC); Voltage - Clamping (Max) @ Ipp: 87.1V; Voltage - Reverse Standoff (Typ): 54V
footprint DO214AB SMC
pins: 1, 2

## 5.0SMDJ54A-Q
designator D?
TVS DIODE; Manufacturer: Bourns Inc.; Current - Peak Pulse (10/1000µs): 57.5A; Power Line Protection: No; Power - Peak Pulse: 5000W (5kW); Type: Zener; Unidirectional Channels: 1; Voltage - Breakdown (Min): 60V; Voltage - Clamping (Max) @ Ipp: 87.1V; Voltage - Reverse Standoff (Typ): 54V; Part Number: 5.0SMDJ54A-Q; Applications: Automotive, Telecom; ComponentLink1Description: Datasheet; ComponentLink1URL: https://www.bourns.com/docs/product-datasheets/5-0smdj-q.pdf; ComponentLink2Description: DigiKey Link; ComponentLink2URL: http://digikey.com/product-detail/en/bourns-inc/5.0SMDJ54A-Q/118-5.0SMDJ54A-QCT-ND/10447763; LastUpdated: 9/2/2020 1:20:06 AM; Lifecycle Status: Active; Minimum Order: 1; Mounting Type: Surface Mount; Operating Temperature: -55°C ~ 150°C (TJ); Package / Case: DO-214AB, SMC; Packaging: TapeAndReel; PartId: 7018; Part Status: Active; Price: 0.86; Series: Automotive, AEC-Q101, 5.0SMDJ; Supplier 1: DigiKey; Supplier Part Number 1: 118-5.0SMDJ54A-QCT-ND; Supplier Device Package: SMC (DO-214AB)
footprint DO214AB SMC
pins: 1, 2

## 5.0SMDJ54CA
designator D?
TVS DIODE 54V 87.1V DO214AB; Manufacturer: Littelfuse Inc.; Bidirectional Channels: 1; Current - Peak Pulse (10/1000µs): 57.5A; Power Line Protection: No; Power - Peak Pulse: 5000W (5kW); Type: Zener; Voltage - Breakdown (Min): 60V; Part Number: 5.0SMDJ54CA; Applications: General Purpose; ComponentLink1Description: Datasheet; ComponentLink1URL: https://www.littelfuse.com/products/tvs-diodes/surface-mount/~/media/electronics/datasheets/tvs_diodes/littelfuse_tvs_diode_5_0smdj_datasheet.pdf.pdf; ComponentLink2Description: DigiKey Link; ComponentLink2URL: http://digikey.com/product-detail/en/littelfuse-inc/5.0SMDJ54CA/F10856CT-ND/8109592; LastUpdated: 9/2/2020 1:28:06 AM; Lifecycle Status: Active; Minimum Order: 1; Mounting Type: Surface Mount; Operating Temperature: -65°C ~ 150°C (TJ); Package / Case: DO-214AB, SMC; Packaging: TapeAndReel; PartId: 8399; Part Status: Active; Price: 1.25; Series: 5.0SMDJ; Supplier 1: DigiKey; Supplier Part Number 1: F10856CT-ND; Supplier Device Package: DO-214AB (SMCJ); Voltage - Clamping (Max) @ Ipp: 87.1V; Voltage - Reverse Standoff (Typ): 54V
footprint DO214AB SMC
pins: 1, 2

## 5.0SMDJ54CA-Q
designator D?
TVS DIODE; Manufacturer: Bourns Inc.; Bidirectional Channels: 1; Current - Peak Pulse (10/1000µs): 57.5A; Power Line Protection: No; Power - Peak Pulse: 5000W (5kW); Type: Zener; Voltage - Breakdown (Min): 60V; Voltage - Clamping (Max) @ Ipp: 87.1V; Voltage - Reverse Standoff (Typ): 54V; Part Number: 5.0SMDJ54CA-Q; Applications: Automotive, Telecom; ComponentLink1Description: Datasheet; ComponentLink1URL: https://www.bourns.com/docs/product-datasheets/5-0smdj-q.pdf; ComponentLink2Description: DigiKey Link; ComponentLink2URL: http://digikey.com/product-detail/en/bourns-inc/5.0SMDJ54CA-Q/118-5.0SMDJ54CA-QCT-ND/10447726; LastUpdated: 9/2/2020 1:28:08 AM; Lifecycle Status: Active; Minimum Order: 1; Mounting Type: Surface Mount; Operating Temperature: -55°C ~ 150°C (TJ); Package / Case: DO-214AB, SMC; Packaging: TapeAndReel; PartId: 8609; Part Status: Active; Price: 0.91; Series: Automotive, AEC-Q101, 5.0SMDJ; Supplier 1: DigiKey; Supplier Part Number 1: 118-5.0SMDJ54CA-QCT-ND; Supplier Device Package: SMC (DO-214AB)
footprint DO214AB SMC
pins: 1, 2

## 5.0SMDJ54CA-T7
designator D?
TVS DIODE 54V 87.1V DO214AB; Manufacturer: Littelfuse Inc.; Bidirectional Channels: 1; Current - Peak Pulse (10/1000µs): 57.5A; Power Line Protection: No; Power - Peak Pulse: 5000W (5kW); Type: Zener; Voltage - Breakdown (Min): 60V; Part Number: 5.0SMDJ54CA-T7; Applications: General Purpose; ComponentLink1Description: Datasheet; ComponentLink1URL: https://www.littelfuse.com/products/tvs-diodes/surface-mount/~/media/electronics/datasheets/tvs_diodes/littelfuse_tvs_diode_5_0smdj_datasheet.pdf.pdf; ComponentLink2Description: DigiKey Link; ComponentLink2URL: http://digikey.com/product-detail/en/littelfuse-inc/5.0SMDJ54CA-T7/5.0SMDJ54CA-T7CT-ND/9857575; LastUpdated: 9/2/2020 1:28:06 AM; Lifecycle Status: Active; Minimum Order: 1; Mounting Type: Surface Mount; Operating Temperature: -65°C ~ 150°C (TJ); Package / Case: DO-214AB, SMC; Packaging: TapeAndReel; PartId: 8482; Part Status: Active; Price: 1.49; Series: 5.0SMDJ; Supplier 1: DigiKey; Supplier Part Number 1: 5.0SMDJ54CA-T7CT-ND; Supplier Device Package: DO-214AB (SMCJ); Voltage - Clamping (Max) @ Ipp: 87.1V; Voltage - Reverse Standoff (Typ): 54V
footprint DO214AB SMC
pins: 1, 2

## 5.0SMDJ58A
designator D?
TVS DIODE 58V 93.6V DO214AB; Manufacturer: Littelfuse Inc.; Current - Peak Pulse (10/1000µs): 53.5A; Power Line Protection: No; Power - Peak Pulse: 5000W (5kW); Type: Zener; Unidirectional Channels: 1; Voltage - Breakdown (Min): 64.4V; Part Number: 5.0SMDJ58A; Applications: General Purpose; ComponentLink1Description: Datasheet; ComponentLink1URL: https://www.littelfuse.com/products/tvs-diodes/surface-mount/~/media/electronics/datasheets/tvs_diodes/littelfuse_tvs_diode_5_0smdj_datasheet.pdf.pdf; ComponentLink2Description: DigiKey Link; ComponentLink2URL: http://digikey.com/product-detail/en/littelfuse-inc/5.0SMDJ58A/5.0SMDJ58ACT-ND/2699850; LastUpdated: 9/2/2020 1:20:01 AM; Lifecycle Status: Active; Minimum Order: 1; Mounting Type: Surface Mount; Operating Temperature: -65°C ~ 150°C (TJ); Package / Case: DO-214AB, SMC; Packaging: TapeAndReel; PartId: 6513; Part Status: Active; Price: 0.94; Series: 5.0SMDJ; Supplier 1: DigiKey; Supplier Part Number 1: 5.0SMDJ58ACT-ND; Supplier Device Package: DO-214AB (SMCJ); Voltage - Clamping (Max) @ Ipp: 93.6V; Voltage - Reverse Standoff (Typ): 58V
footprint DO214AB SMC
pins: 1, 2

## 5.0SMDJ58A-Q
designator D?
TVS DIODE; Manufacturer: Bourns Inc.; Current - Peak Pulse (10/1000µs): 53.5A; Power Line Protection: No; Power - Peak Pulse: 5000W (5kW); Type: Zener; Unidirectional Channels: 1; Voltage - Breakdown (Min): 64.4V; Voltage - Clamping (Max) @ Ipp: 93.6V; Voltage - Reverse Standoff (Typ): 58V; Part Number: 5.0SMDJ58A-Q; Applications: Automotive, Telecom; ComponentLink1Description: Datasheet; ComponentLink1URL: https://www.bourns.com/docs/product-datasheets/5-0smdj-q.pdf; ComponentLink2Description: DigiKey Link; ComponentLink2URL: http://digikey.com/product-detail/en/bourns-inc/5.0SMDJ58A-Q/118-5.0SMDJ58A-QDKR-ND/10447764; LastUpdated: 9/2/2020 1:20:06 AM; Lifecycle Status: Active; Minimum Order: 1; Mounting Type: Surface Mount; Operating Temperature: -55°C ~ 150°C (TJ); Package / Case: DO-214AB, SMC; Packaging: TapeAndReel; PartId: 7023; Part Status: Active; Price: 0.86; Series: Automotive, AEC-Q101, 5.0SMDJ; Supplier 1: DigiKey; Supplier Part Number 1: 118-5.0SMDJ58A-QDKR-ND; Supplier Device Package: SMC (DO-214AB)
footprint DO214AB SMC
pins: 1, 2

## 5.0SMDJ58AS
designator D?
TVS DIODE 5KW 58V 5%UNI DO-214AB; Manufacturer: Littelfuse Inc.; Current - Peak Pulse (10/1000µs): 53.5A; Power Line Protection: No; Power - Peak Pulse: 5000W (5kW); Type: Zener; Unidirectional Channels: 1; Voltage - Breakdown (Min): 64.4V; Voltage - Clamping (Max) @ Ipp: 93.6V; Part Number: 5.0SMDJ58AS; Applications: Telecom; ComponentLink1Description: Datasheet; ComponentLink1URL: https://m.littelfuse.com/~/media/electronics/datasheets/tvs_diodes/littelfuse_tvs_diode_5_0smdjxxs_datasheet.pdf.pdf; ComponentLink2Description: DigiKey Link; ComponentLink2URL: http://digikey.com/product-detail/en/littelfuse-inc/5.0SMDJ58AS/5.0SMDJ58ASCT-ND/10264826; LastUpdated: 9/2/2020 1:20:06 AM; Lifecycle Status: Active; Minimum Order: 1; Mounting Type: Surface Mount; Operating Temperature: -65°C ~ 150°C (TJ); Package / Case: DO-214AB, SMC; Packaging: TapeAndReel; PartId: 7002; Part Status: Active; Price: 0.84; Series: 5.0SMDJ-S; Supplier 1: DigiKey; Supplier Part Number 1: 5.0SMDJ58ASCT-ND; Supplier Device Package: DO-214AB (SMCJ); Voltage - Reverse Standoff (Typ): 58V
footprint DO214AB SMC
pins: 1, 2

## 5.0SMDJ58CA
designator D?
DIO TVS VWM 58V 5KW BIDIR SMC; Manufacturer: Bourns Inc.; Bidirectional Channels: 1; Current - Peak Pulse (10/1000µs): 53.5A; Power Line Protection: No; Power - Peak Pulse: 5000W (5kW); Type: Zener; Voltage - Breakdown (Min): 64.4V; Voltage - Clamping (Max) @ Ipp: 93.6V; Part Number: 5.0SMDJ58CA; Applications: General Purpose; ComponentLink1Description: Datasheet; ComponentLink1URL: https://www.bourns.com/docs/product-datasheets/5-0smdj.pdf; ComponentLink2Description: DigiKey Link; ComponentLink2URL: http://digikey.com/product-detail/en/bourns-inc/5.0SMDJ58CA/5.0SMDJ58CACT-ND/9341788; LastUpdated: 9/2/2020 1:28:04 AM; Lifecycle Status: Active; Minimum Order: 1; Mounting Type: Surface Mount; Operating Temperature: -55°C ~ 150°C (TJ); Package / Case: DO-214AB, SMC; Packaging: TapeAndReel; PartId: 8247; Part Status: Active; Price: 0.76; Series: 5.0SMDJ; Supplier 1: DigiKey; Supplier Part Number 1: 5.0SMDJ58CACT-ND; Supplier Device Package: DO-214AB (SMC); Voltage - Reverse Standoff (Typ): 58V
footprint DO214AB SMC
pins: 1, 2

## 5.0SMDJ58CA-Q
designator D?
TVS DIODE; Manufacturer: Bourns Inc.; Bidirectional Channels: 1; Current - Peak Pulse (10/1000µs): 53.5A; Power Line Protection: No; Power - Peak Pulse: 5000W (5kW); Type: Zener; Voltage - Breakdown (Min): 64.4V; Voltage - Clamping (Max) @ Ipp: 93.6V; Voltage - Reverse Standoff (Typ): 58V; Part Number: 5.0SMDJ58CA-Q; Applications: Automotive, Telecom; ComponentLink1Description: Datasheet; ComponentLink1URL: https://www.bourns.com/docs/product-datasheets/5-0smdj-q.pdf; ComponentLink2Description: DigiKey Link; ComponentLink2URL: http://digikey.com/product-detail/en/bourns-inc/5.0SMDJ58CA-Q/118-5.0SMDJ58CA-QCT-ND/10447735; LastUpdated: 9/2/2020 1:28:08 AM; Lifecycle Status: Active; Minimum Order: 1; Mounting Type: Surface Mount; Operating Temperature: -55°C ~ 150°C (TJ); Package / Case: DO-214AB, SMC; Packaging: TapeAndReel; PartId: 8606; Part Status: Active; Price: 0.91; Series: Automotive, AEC-Q101, 5.0SMDJ; Supplier 1: DigiKey; Supplier Part Number 1: 118-5.0SMDJ58CA-QCT-ND; Supplier Device Package: SMC (DO-214AB)
footprint DO214AB SMC
pins: 1, 2

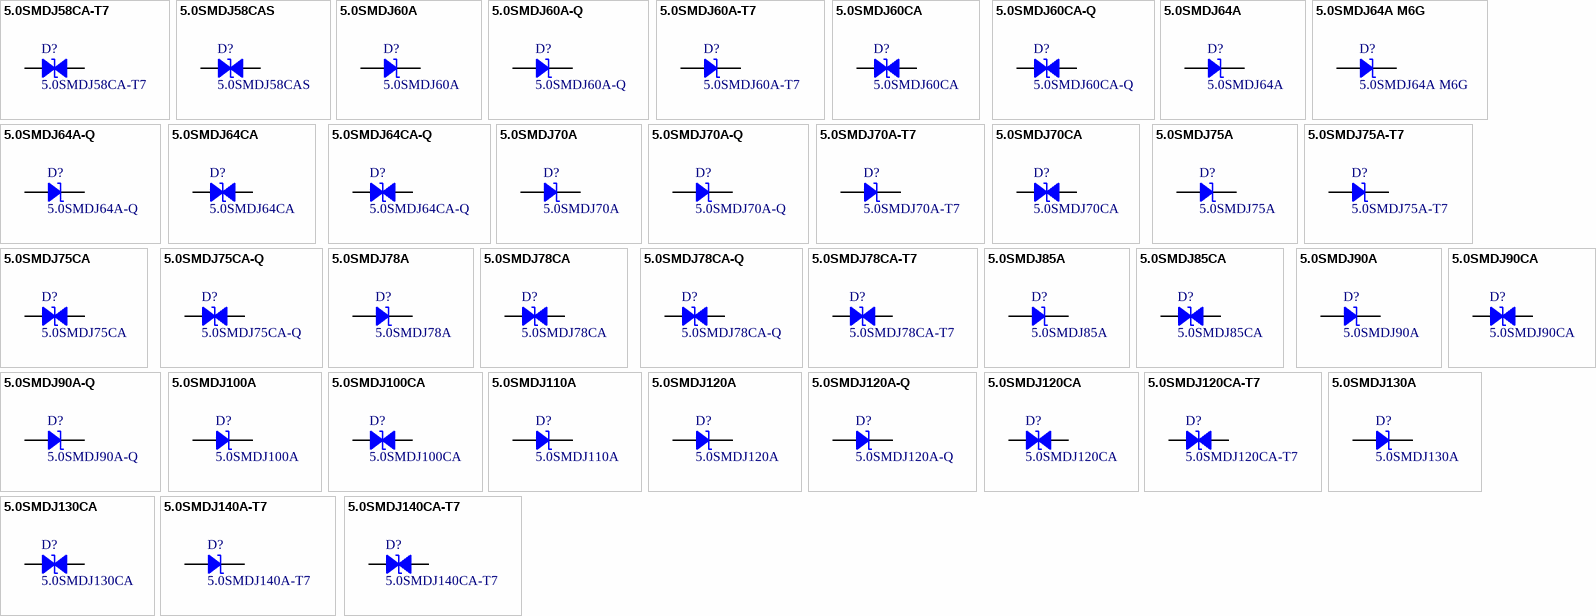
[diagram p13: symbols 5.0SMDJ58CA-T7 to 5.0SMDJ140CA-T7]

## 5.0SMDJ58CA-T7
designator D?
TVS DIODE 58VWM 93.6VC SMD; Manufacturer: Littelfuse Inc.; Bidirectional Channels: 1; Current - Peak Pulse (10/1000µs): 53.5A; Power Line Protection: No; Power - Peak Pulse: 5000W (5kW); Type: Zener; Voltage - Breakdown (Min): 64.4V; Voltage - Clamping (Max) @ Ipp: 93.6V; Voltage - Reverse Standoff (Typ): 58V; Part Number: 5.0SMDJ58CA-T7; Applications: General Purpose; ComponentLink1Description: Datasheet; ComponentLink1URL: https://www.littelfuse.com/products/tvs-diodes/surface-mount/~/media/electronics/datasheets/tvs_diodes/littelfuse_tvs_diode_5_0smdj_datasheet.pdf.pdf; ComponentLink2Description: DigiKey Link; ComponentLink2URL: http://digikey.com/product-detail/en/littelfuse-inc/5.0SMDJ58CA-T7/5.0SMDJ58CA-T7CT-ND/8548367; LastUpdated: 9/2/2020 1:28:06 AM; Lifecycle Status: Active; Minimum Order: 1; Mounting Type: Surface Mount; Operating Temperature: -65°C ~ 150°C (TJ); Package / Case: DO-214AB, SMC; Packaging: TapeAndReel; PartId: 8483; Part Status: Active; Price: 1.49; Series: 5.0SMDJ; Supplier 1: DigiKey; Supplier Part Number 1: 5.0SMDJ58CA-T7CT-ND; Supplier Device Package: DO-214AB (SMCJ)
footprint DO214AB SMC
pins: 1, 2

## 5.0SMDJ58CAS
designator D?
TVS DIODE 4.5KW 58V 5%BI DO-214A; Manufacturer: Littelfuse Inc.; Bidirectional Channels: 1; Current - Peak Pulse (10/1000µs): 48.1A; Power Line Protection: No; Power - Peak Pulse: 5000W (5kW); Type: Zener; Voltage - Breakdown (Min): 64.4V; Voltage - Clamping (Max) @ Ipp: 93.6V; Part Number: 5.0SMDJ58CAS; Applications: Telecom; ComponentLink1Description: Datasheet; ComponentLink1URL: https://m.littelfuse.com/~/media/electronics/datasheets/tvs_diodes/littelfuse_tvs_diode_5_0smdjxxs_datasheet.pdf.pdf; ComponentLink2Description: DigiKey Link; ComponentLink2URL: http://digikey.com/product-detail/en/littelfuse-inc/5.0SMDJ58CAS/5.0SMDJ58CASCT-ND/10264827; LastUpdated: 9/2/2020 1:28:06 AM; Lifecycle Status: Active; Minimum Order: 1; Mounting Type: Surface Mount; Operating Temperature: -65°C ~ 150°C (TJ); Package / Case: DO-214AB, SMC; Packaging: TapeAndReel; PartId: 8402; Part Status: Active; Price: 1.06; Series: 5.0SMDJ-S; Supplier 1: DigiKey; Supplier Part Number 1: 5.0SMDJ58CASCT-ND; Supplier Device Package: DO-214AB (SMCJ); Voltage - Reverse Standoff (Typ): 58V
footprint DO214AB SMC
pins: 1, 2

## 5.0SMDJ60A
designator D?
TVS DIODE 60V 96.8V DO214AB; Manufacturer: Bourns Inc.; Current - Peak Pulse (10/1000µs): 51.7A; Power Line Protection: No; Power - Peak Pulse: 5000W (5kW); Type: Zener; Unidirectional Channels: 1; Voltage - Breakdown (Min): 66.7V; Part Number: 5.0SMDJ60A; Applications: General Purpose; ComponentLink1Description: Datasheet; ComponentLink1URL: https://www.bourns.com/docs/product-datasheets/5-0smdj.pdf; ComponentLink2Description: DigiKey Link; ComponentLink2URL: http://digikey.com/product-detail/en/bourns-inc/5.0SMDJ60A/5.0SMDJ60ABBCT-ND/7796667; LastUpdated: 9/2/2020 1:19:58 AM; Lifecycle Status: Active; Minimum Order: 1; Mounting Type: Surface Mount; Operating Temperature: -55°C ~ 150°C (TJ); Package / Case: DO-214AB, SMC; Packaging: TapeAndReel; PartId: 6241; Part Status: Active; Price: 0.71; Series: 5.0SMDJ; Supplier 1: DigiKey; Supplier Part Number 1: 5.0SMDJ60ABBCT-ND; Supplier Device Package: DO-214AB (SMC); Voltage - Clamping (Max) @ Ipp: 96.8V; Voltage - Reverse Standoff (Typ): 60V
footprint DO214AB SMC
pins: 1, 2